# EAGLE library part FCCART (library nes)
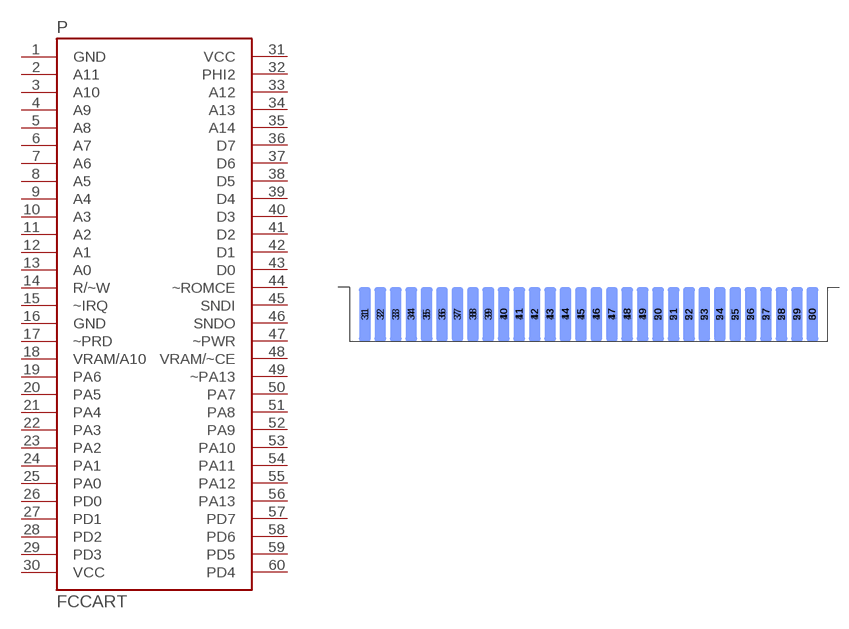
[diagram p0: symbol with the pads of FCCART; footprint FCCART]

Designator prefix P

## FCCART  [FCCART]
1  GND  sup
2  A11  out
3  A10  out
4  A9  out
5  A8  out
6  A7  out
7  A6  out
8  A5  out
9  A4  out
10  A3  out
11  A2  out
12  A1  out
13  A0  out
14  R/~W  out
15  ~IRQ  out
16  GND  sup
17  ~PRD  out
18  VRAM/A10  in
19  PA6  out
20  PA5  out
21  PA4  out
22  PA3  out
23  PA2  out
24  PA1  out
25  PA0  out
26  PD0
27  PD1
28  PD2
29  PD3
30  VCC  sup
31  VCC  sup
32  PHI2  out
33  A12  out
34  A13  out
35  A14  out
36  D7  out
37  D6  out
38  D5  out
39  D4  out
40  D3  out
41  D2  out
42  D1  out
43  D0  out
44  ~ROMCE  out
45  SNDI  out
46  SNDO  in
47  ~PWR  out
48  VRAM/~CE  in
49  ~PA13  out
50  PA7  out
51  PA8  out
52  PA9  out
53  PA10  out
54  PA11  out
55  PA12  out
56  PA13  out
57  PD7
58  PD6
59  PD5
60  PD4

## Footprint FCCART (pad centres in mm)
smd 1.905 x 8.89: 1 -36.83,-4.445; 2 -34.29,-4.445; 3 -31.75,-4.445; 4 -29.21,-4.445; 5 -26.67,-4.445; 6 -24.13,-4.445; 7 -21.59,-4.445; 8 -19.05,-4.445; 9 -16.51,-4.445; 10 -13.97,-4.445; 11 -11.43,-4.445; 12 -8.89,-4.445; 13 -6.35,-4.445; 14 -3.81,-4.445; 15 -1.27,-4.445; 16 1.27,-4.445; 17 3.81,-4.445; 18 6.35,-4.445; 19 8.89,-4.445; 20 11.43,-4.445; 21 13.97,-4.445; 22 16.51,-4.445; 23 19.05,-4.445; 24 21.59,-4.445; 25 24.13,-4.445; 26 26.67,-4.445; 27 29.21,-4.445; 28 31.75,-4.445; 29 34.29,-4.445; 30 36.83,-4.445
smd 1.905 x 8.89 bottom: 31 -36.83,-4.445; 32 -34.29,-4.445; 33 -31.75,-4.445; 34 -29.21,-4.445; 35 -26.67,-4.445; 36 -24.13,-4.445; 37 -21.59,-4.445; 38 -19.05,-4.445; 39 -16.51,-4.445; 40 -13.97,-4.445; 41 -11.43,-4.445; 42 -8.89,-4.445; 43 -6.35,-4.445; 44 -3.81,-4.445; 45 -1.27,-4.445; 46 1.27,-4.445; 47 3.81,-4.445; 48 6.35,-4.445; 49 8.89,-4.445; 50 11.43,-4.445; 51 13.97,-4.445; 52 16.51,-4.445; 53 19.05,-4.445; 54 21.59,-4.445; 55 24.13,-4.445; 56 26.67,-4.445; 57 29.21,-4.445; 58 31.75,-4.445; 59 34.29,-4.445; 60 36.83,-4.445